# Altium schematic symbol library REF19x.Schlib: 1 symbol
Pins are listed as number, name and electrical type; pins without a type are passive.

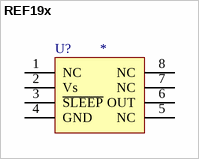
[diagram p0: symbol REF19x]

## REF19x
designator U?
pins: 1 NC, 2 Vs, 3 ~{SLEEP}, 4 GND, 5 NC, 6 OUT, 7 NC, 8 NC
1 alternate drawing of the same symbol